# EAGLE library part WIZ810MJ (library WIZNET)
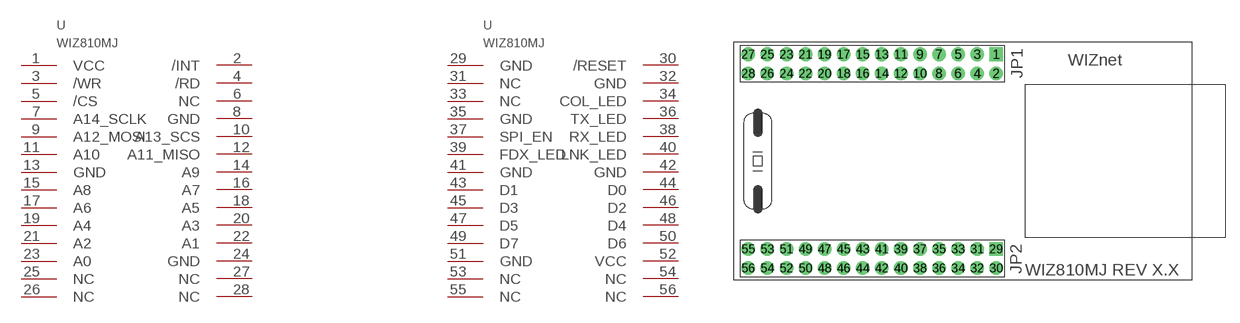
[diagram p0: symbol with the pads of WIZ810MJ; footprint WIZ810MJ]

Designator prefix -

## WIZ810MJ  [WIZ810MJ]
1  VCC
2  /INT
3  /WR
4  /RD
5  /CS
6  NC
7  A14_SCLK
8  GND
9  A12_MOSI
10  A13_SCS
11  A10
12  A11_MISO
13  GND
14  A9
15  A8
16  A7
17  A6
18  A5
19  A4
20  A3
21  A2
22  A1
23  A0
24  GND
25  NC
26  NC
27  NC
28  NC
29  GND
30  /RESET
31  NC
32  GND
33  NC
34  COL_LED
35  GND
36  TX_LED
37  SPI_EN
38  RX_LED
39  FDX_LED
40  LNK_LED
41  GND
42  GND
43  D1
44  D0
45  D3
46  D2
47  D5
48  D4
49  D7
50  D6
51  GND
52  VCC
53  NC
54  NC
55  NC
56  NC

## Footprint WIZ810MJ (pad centres in mm)
drill 0.9 pad 1.422 square: 1 27.5,-1.3; 29 27.5,-21.7
drill 0.9 pad 1.422 round: 2 27.5,-3.3; 3 25.5,-1.3; 4 25.5,-3.3; 5 23.5,-1.3; 6 23.5,-3.3; 7 21.5,-1.3; 8 21.5,-3.3; 9 19.5,-1.3; 10 19.5,-3.3; 11 17.5,-1.3; 12 17.5,-3.3; 13 15.5,-1.3; 14 15.5,-3.3; 15 13.5,-1.3; 16 13.5,-3.3; 17 11.5,-1.3; 18 11.5,-3.3; 19 9.5,-1.3; 20 9.5,-3.3; 21 7.5,-1.3; 22 7.5,-3.3; 23 5.5,-1.3; 24 5.5,-3.3; 25 3.5,-1.3; 26 3.5,-3.3; 27 1.5,-1.3; 28 1.5,-3.3; 30 27.5,-23.7; 31 25.5,-21.7; 32 25.5,-23.7; 33 23.5,-21.7; 34 23.5,-23.7; 35 21.5,-21.7; 36 21.5,-23.7; 37 19.5,-21.7; 38 19.5,-23.7; 39 17.5,-21.7; 40 17.5,-23.7; 41 15.5,-21.7; 42 15.5,-23.7; 43 13.5,-21.7; 44 13.5,-23.7; 45 11.5,-21.7; 46 11.5,-23.7; 47 9.5,-21.7; 48 9.5,-23.7; 49 7.5,-21.7; 50 7.5,-23.7; 51 5.5,-21.7; 52 5.5,-23.7; 53 3.5,-21.7; 54 3.5,-23.7; 55 1.5,-21.7; 56 1.5,-23.7